# EAGLE library part LTC4060_LTC4060 (library m3pi)
Linear LTC4060 (www.linear.com) mbed team ver1.0 06/10/2010
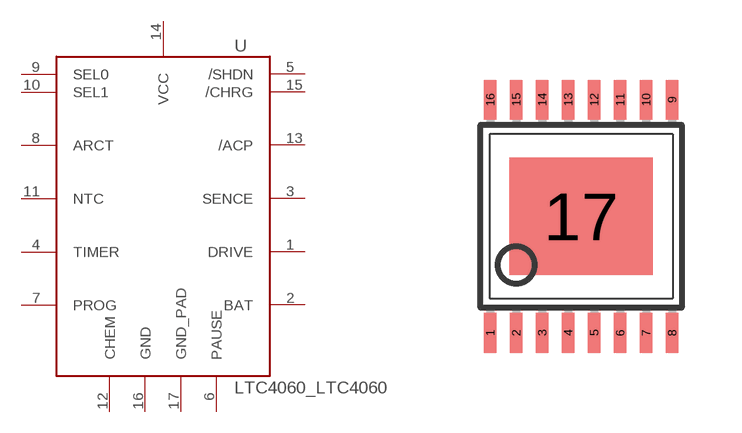
[diagram p0: symbol with the pads of LTC4060_LTC4060; footprint LTC4060_LTC4060]

Designator prefix -

## LTC4060_LTC4060  [LTC4060_LTC4060]
1  DRIVE
2  BAT
3  SENCE
4  TIMER
5  /SHDN
6  PAUSE
7  PROG
8  ARCT
9  SEL0
10  SEL1
11  NTC
12  CHEM
13  /ACP
14  VCC  pwr
15  /CHRG
16  GND  pwr
17  GND_PAD  pwr

## Footprint LTC4060_LTC4060 (pad centres in mm)
smd 0.305 x 0.991: 1 -2.275,-2.918; 2 -1.625,-2.918; 3 -0.975,-2.918; 4 -0.325,-2.918; 5 0.325,-2.918; 6 0.975,-2.918; 7 1.625,-2.918; 8 2.275,-2.918; 9 2.275,2.918; 10 1.625,2.918; 11 0.975,2.918; 12 0.325,2.918; 13 -0.325,2.918; 14 -0.975,2.918; 15 -1.625,2.918; 16 -2.275,2.918
smd 3.581 x 2.946: 17 0,0